# Altium footprint library CommonPcb.PcbLib: 194 footprints (part 5 of 13)
Each footprint in its own frame and in the unit in brackets; x right, y up, seen from the top. Pads: shape width x height; smd on the part's side, far side on the other; paste and mask are expansions set on the pad; w line width, h text height; cw(c..) or ccw(c..) is an arc to the next point about the centre after c.
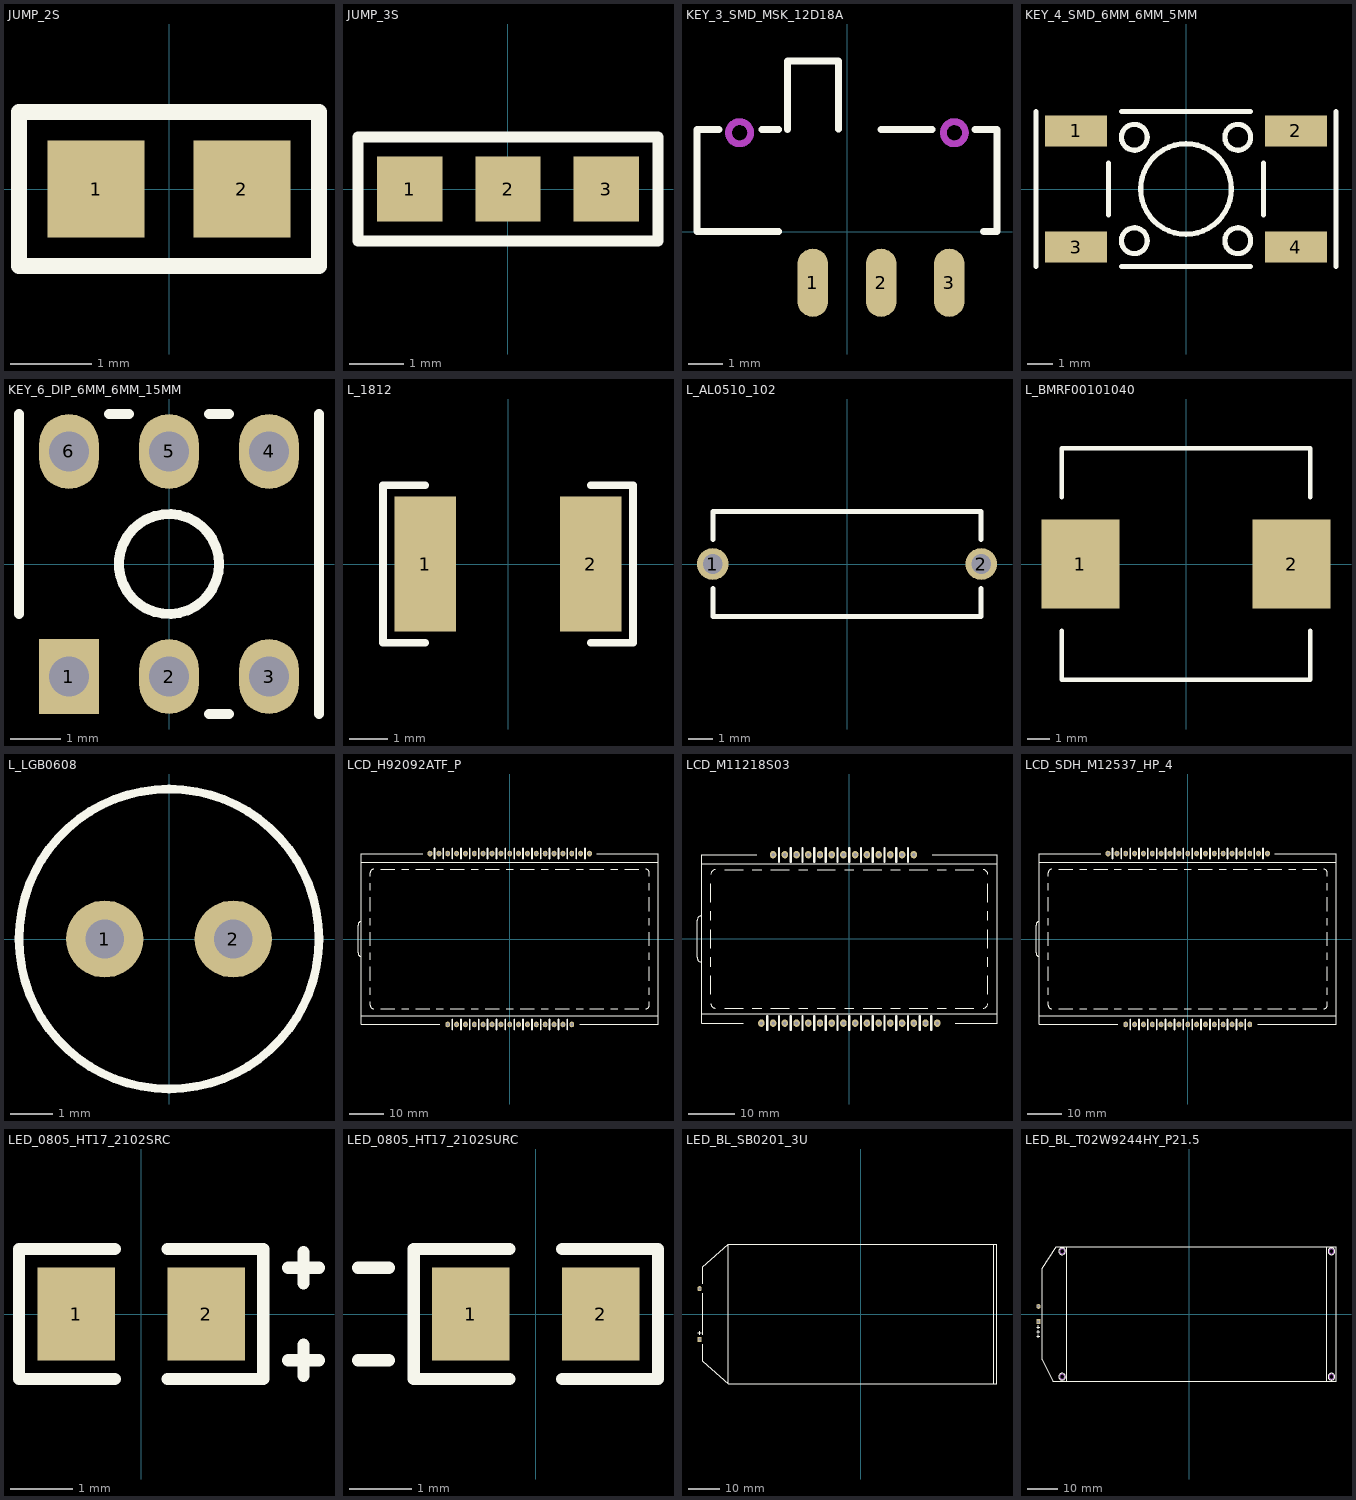
[diagram p4: the footprints below, top view; thin cyan lines are the x and y axes]

## JUMP_2S [mm] "JUMP_2S"
pads (2):
  rect 1.2x1.2 smd mask+0.1: 1(-0.9,0) 2(0.9,0)
Top Overlay:
  lines w0.2: -1.85,-0.95 -1.85,0.95 1.85,0.95 1.85,-0.95 -1.85,-0.95
3D body: height 0, standoff 0, extent -1.849,-0.949 1.849,0.949

## JUMP_3S [mm] "JUMP_3S"
pads (3):
  rect 1.2x1.2 smd mask+0.1: 1(-1.8,0) 2(0,0) 3(1.8,0)
Top Overlay:
  lines w0.2: -2.75,-0.95 -2.75,0.95 2.75,0.95 2.75,-0.95 -2.75,-0.95
3D body: height 0, standoff 0, extent -2.749,-0.949 2.749,0.949

## KEY_3_SMD_MSK_12D18A [mm] "MSK-12D18A"
pads (3):
  oval 0.9x2 smd mask+0.1: 1(-1,-1.5) 2(1,-1.5) 3(3,-1.5)
Top Overlay:
  lines w0.2: -3.75,3 -4.4,3 -4.4,0 -2,0 ; -2.5,3 -2,3 ; -1.75,3 -1.75,5 -0.25,5 -0.25,3 ; 1,3 2.5,3 ; 3.75,3 4.4,3 4.4,0 4,0
Keep-Out Layer:
  circle w0.2: c-3.15,2.9 r0.325
  circle w0.2: c3.15,2.9 r0.325
Mechanical 1:
  circle w0.2: c-3.15,2.9 r0.325
  circle w0.2: c3.15,2.9 r0.325
3D body: height 0, standoff 0, extent -4.4,-2.6 4.4,5.2

## KEY_4_SMD_6MM_6MM_5MM [mm] "6MM_6MM_5MM"
pads (4):
  rect 2.4x1.2 smd mask+0.1: 1(-4.25,2.25) 2(4.25,2.25) 3(-4.25,-2.25) 4(4.25,-2.25)
Top Overlay:
  circle w0.2: c2,-2 r0.5
  circle w0.2: c-2,-2 r0.5
  circle w0.2: c2,2 r0.5
  circle w0.2: c-2,2 r0.5
  circle w0.2: c0,0 r1.75
  lines w0.2: -5.8,-3 -5.8,3 ; -3,-1 -3,1 ; -2.5,-3 2.5,-3 ; -2.5,3 2.5,3 ; 3,-1 3,1 ; 5.8,-3 5.8,3
3D body: height 0, standoff 0, extent -5.799,-2.999 5.799,2.999

## KEY_6_DIP_6MM_6MM_15MM [mm] "6MM_6MM_15MM"
pads (6):
  rect 1.2x1.5 hole 0.8 mask+0.1: 1(-2,-2.25)
  oval 1.2x1.5 hole 0.8 mask+0.1: 2(0,-2.25) 3(2,-2.25) 4(2,2.25) 5(0,2.25) 6(-2,2.25)
Top Overlay:
  circle w0.2: c0,0 r1
  lines w0.2: -3,-1 -3,3 ; -1.2,3 -0.8,3 ; 0.8,-3 1.2,-3 ; 0.8,3 1.2,3 ; 3,-3 3,3
3D body: height 0, standoff 0, extent -2.999,-2.999 2.999,2.999

## L_1812 [mm] "L_1812"
pads (2):
  rect 1.6x3.5 smd mask+0.1: 1(-2.15,0) 2(2.15,0)
Top Overlay:
  lines w0.2: -2.15,-2.05 -3.25,-2.05 -3.25,2.05 -2.15,2.05 ; 2.15,-2.05 3.25,-2.05 3.25,2.05 2.15,2.05
3D body: height 0, standoff 0, extent -3.25,-2.05 3.25,2.05

## L_AL0510_102 [mm] "AL0510-102K"
height 4.3
pads (2):
  round 1.3 hole 0.8 mask+0.1: 1(-5.5,0) 2(5.5,0)
Top Overlay:
  lines w0.2: -5.5,-1 -5.5,-2.15 5.5,-2.15 5.5,-1 ; -5.5,1 -5.5,2.15 5.5,2.15 5.5,1
3D body: height 5, standoff 0, extent -5.5,-2.15 5.5,2.15

## L_BMRF00101040 [mm] "L_BMRF00101040"
height 4
pads (2):
  rect 3.5x4 smd mask+0.1: 1(-4.75,0) 2(4.75,0)
Top Overlay:
  lines w0.2: -5.6,-3 -5.6,-5.2 5.6,-5.2 5.6,-3 ; -5.6,3 -5.6,5.2 5.6,5.2 5.6,3
3D body: height 0, standoff 0, extent -5.6,-5.2 5.6,5.2

## L_LGB0608 [mm] "LGB0608"
pads (2):
  round 1.8 hole 0.9 mask+0.1: 1(-1.5,0) 2(1.5,0)
Top Overlay:
  circle w0.2: c0,0 r3.5
3D body: height 0, standoff 0, extent -3.499,-3.499 3.499,3.499

## LCD_H92092ATF_P [mm] "LCD"
pads (34):
  oval 1.4x1.6 hole 0.8 mask+0.1: 1(-17.78,-24.5) 2(-15.24,-24.5) 3(-12.7,-24.5) 4(-10.16,-24.5) 5(-7.62,-24.5) 6(-5.08,-24.5) 7(-2.54,-24.5) 8(0,-24.5) 9(2.54,-24.5) 10(5.08,-24.5) 11(7.62,-24.5) 12(10.16,-24.5) 13(12.7,-24.5) 14(15.24,-24.5) 15(17.78,-24.5) 16(22.86,24.5) 17(20.32,24.5) 18(17.78,24.5) 19(15.24,24.5) 20(12.7,24.5) 21(10.16,24.5) 22(7.62,24.5) 23(5.08,24.5) 24(2.54,24.5) 25(0,24.5) 26(-2.54,24.5) 27(-5.08,24.5) 28(-7.62,24.5) 29(-10.16,24.5) 30(-12.7,24.5) 31(-15.24,24.5) 32(-17.78,24.5) 33(-20.32,24.5) 34(-22.86,24.5)
Top Overlay:
  lines w0.2: -42.5,-22 42.5,-22 ; -42.5,-5 cw(c-42.5,-4) -43.5,-4 -43.5,4 cw(c-42.5,4) -42.5,5 ; -42.5,22 42.5,22 ; -40,-18 -40,-19 ccw(c-39,-19) -39,-20 ; -40,-16 -40,-14 ; -40,-12 -40,-8 ; -40,-6 -40,-4 ; -40,-2 -40,2 ; -40,4 -40,6 ; -40,8 -40,12 ; -40,14 -40,16 ; -40,18 -40,19 cw(c-39,19) -39,20 ; -37,-20 -33,-20 ; -37,20 -33,20 ; -31,-20 -29,-20 ; -31,20 -29,20 ; -27,-20 -23,-20 ; -27,20 -23,20 ; -25,24.5 -42.5,24.5 -42.5,-24.5 -20,-24.5 ; -21,-20 -19,-20 ; -21,20 -19,20 ; -17,-20 -13,-20 ; -17,20 -13,20 ; -11,-20 -9,-20 ; -11,20 -9,20 ; -7,-20 -3,-20 ; -7,20 -3,20 ; -1,-20 1,-20 ; -1,20 1,20 ; 3,-20 7,-20 ; 3,20 7,20 ; 9,-20 11,-20 ; 9,20 11,20 ; 13,-20 17,-20 ; 13,20 17,20 ; 19,-20 21,-20 ; 19,20 21,20 ; 20,-24.5 42.5,-24.5 42.5,24.5 25,24.5 ; 23,-20 27,-20 ; 23,20 27,20 ; 29,-20 31,-20 ; 29,20 31,20 ; 33,-20 37,-20 ; 33,20 37,20 ; 39,-20 ccw(c39,-19) 40,-19 40,-18 ; 39,20 cw(c39,19) 40,19 40,18 ; 40,-16 40,-14 ; 40,-12 40,-8 ; 40,-6 40,-4 ; 40,-2 40,2 ; 40,4 40,6 ; 40,8 40,12 ; 40,14 40,16
  lines w0.5: -21.59,23 -21.59,26 ; -19.05,23 -19.05,26 ; -16.51,-26 -16.51,-23 ; -16.51,23 -16.51,26 ; -13.97,-26 -13.97,-23 ; -13.97,23 -13.97,26 ; -11.43,-26 -11.43,-23 ; -11.43,23 -11.43,26 ; -8.89,-26 -8.89,-23 ; -8.89,23 -8.89,26 ; -6.35,-26 -6.35,-23 ; -6.35,23 -6.35,26 ; -3.81,-26 -3.81,-23 ; -3.81,23 -3.81,26 ; -1.27,-26 -1.27,-23 ; -1.27,23 -1.27,26 ; 1.27,-26 1.27,-23 ; 1.27,23 1.27,26 ; 3.81,-26 3.81,-23 ; 3.81,23 3.81,26 ; 6.35,-26 6.35,-23 ; 6.35,23 6.35,26 ; 8.89,-26 8.89,-23 ; 8.89,23 8.89,26 ; 11.43,-26 11.43,-23 ; 11.43,23 11.43,26 ; 13.97,-26 13.97,-23 ; 13.97,23 13.97,26 ; 16.51,-26 16.51,-23 ; 16.51,23 16.51,26 ; 19.05,23 19.05,26 ; 21.59,23 21.59,26
3D body: height 27.5, standoff 25, extent -43.6,-25.402 42.6,25.402

## LCD_M11218S03 [mm] "LCD"
pads (29):
  oval 1.4x1.6 hole 0.8 mask+0.1: 1(-16.51,18.25) 2(-13.97,18.25) 3(-11.43,18.25) 4(-8.89,18.25) 5(-6.35,18.25) 6(-3.81,18.25) 7(-1.27,18.25) 8(1.27,18.25) 9(3.81,18.25) 10(6.35,18.25) 11(8.89,18.25) 12(11.43,18.25) 13(13.97,18.25) 14(19.05,-18.25) 15(16.51,-18.25) 16(13.97,-18.25) 17(11.43,-18.25) 18(8.89,-18.25) 19(6.35,-18.25) 20(3.81,-18.25) 21(1.27,-18.25) 22(-1.27,-18.25) 23(-3.81,-18.25) 24(-6.35,-18.25) 25(-8.89,-18.25) 26(-11.43,-18.25) 27(-13.97,-18.25) 28(-16.51,-18.25) 29(-19.05,-18.25)
Top Overlay:
  lines w0.2: -32,-16.25 32,-16.25 ; -32,-5 cw(c-32,-4) -33,-4 -33,4 cw(c-32,4) -32,5 ; -32,16.25 32,16.25 ; -30,-14 ccw(c-29,-14) -29,-15 ; -30,-12 -30,-8 ; -30,-6 -30,-4 ; -30,-2 -30,2 ; -30,4 -30,6 ; -30,8 -30,12 ; -30,14 cw(c-29,14) -29,15 ; -27,-15 -23,-15 ; -27,15 -23,15 ; -23,-18.25 -32,-18.25 -32,18.25 -20,18.25 ; -21,-15 -19,-15 ; -21,15 -19,15 ; -17,-15 -13,-15 ; -17,15 -13,15 ; -11,-15 -9,-15 ; -11,15 -9,15 ; -7,-15 -3,-15 ; -7,15 -3,15 ; -1,-15 1,-15 ; -1,15 1,15 ; 3,-15 7,-15 ; 3,15 7,15 ; 9,-15 11,-15 ; 9,15 11,15 ; 13,-15 17,-15 ; 13,15 17,15 ; 18,18.25 32,18.25 32,-18.25 23,-18.25 ; 19,-15 21,-15 ; 19,15 21,15 ; 23,-15 27,-15 ; 23,15 27,15 ; 29,-15 ccw(c29,-14) 30,-14 ; 29,15 cw(c29,14) 30,14 ; 30,-12 30,-8 ; 30,-6 30,-4 ; 30,-2 30,2 ; 30,4 30,6 ; 30,8 30,12
  lines w0.5: -17.78,-19.75 -17.78,-16.75 ; -15.24,-19.75 -15.24,-16.75 ; -15.24,16.725 -15.24,19.725 ; -12.7,-19.75 -12.7,-16.75 ; -12.7,16.725 -12.7,19.725 ; -10.16,-19.75 -10.16,-16.75 ; -10.16,16.725 -10.16,19.725 ; -7.62,-19.75 -7.62,-16.75 ; -7.62,16.725 -7.62,19.725 ; -5.08,-19.75 -5.08,-16.75 ; -5.08,16.725 -5.08,19.725 ; -2.54,-19.75 -2.54,-16.75 ; -2.54,16.725 -2.54,19.725 ; 0,-19.75 0,-16.75 ; 0,16.725 0,19.725 ; 2.54,-19.75 2.54,-16.75 ; 2.54,16.725 2.54,19.725 ; 5.08,-19.75 5.08,-16.75 ; 5.08,16.725 5.08,19.725 ; 7.62,-19.75 7.62,-16.75 ; 7.62,16.725 7.62,19.725 ; 10.16,-19.75 10.16,-16.75 ; 10.16,16.725 10.16,19.725 ; 12.7,-19.75 12.7,-16.75 ; 12.7,16.725 12.7,19.725 ; 15.24,-19.75 15.24,-16.75 ; 17.78,-19.75 17.78,-16.75
3D body: height 0, standoff 0, extent -32,-18.25 32,18.25

## LCD_SDH_M12537_HP_4 [mm] "LCD"
pads (34):
  oval 1.4x1.6 hole 0.8 mask+0.1: 1(-17.78,-24.5) 2(-15.24,-24.5) 3(-12.7,-24.5) 4(-10.16,-24.5) 5(-7.62,-24.5) 6(-5.08,-24.5) 7(-2.54,-24.5) 8(0,-24.5) 9(2.54,-24.5) 10(5.08,-24.5) 11(7.62,-24.5) 12(10.16,-24.5) 13(12.7,-24.5) 14(15.24,-24.5) 15(17.78,-24.5) 16(22.86,24.5) 17(20.32,24.5) 18(17.78,24.5) 19(15.24,24.5) 20(12.7,24.5) 21(10.16,24.5) 22(7.62,24.5) 23(5.08,24.5) 24(2.54,24.5) 25(0,24.5) 26(-2.54,24.5) 27(-5.08,24.5) 28(-7.62,24.5) 29(-10.16,24.5) 30(-12.7,24.5) 31(-15.24,24.5) 32(-17.78,24.5) 33(-20.32,24.5) 34(-22.86,24.5)
Top Overlay:
  lines w0.2: -42.5,-22 42.5,-22 ; -42.5,-5 cw(c-42.5,-4) -43.5,-4 -43.5,4 cw(c-42.5,4) -42.5,5 ; -42.5,22 42.5,22 ; -40,-18 -40,-19 ccw(c-39,-19) -39,-20 ; -40,-16 -40,-14 ; -40,-12 -40,-8 ; -40,-6 -40,-4 ; -40,-2 -40,2 ; -40,4 -40,6 ; -40,8 -40,12 ; -40,14 -40,16 ; -40,18 -40,19 cw(c-39,19) -39,20 ; -37,-20 -33,-20 ; -37,20 -33,20 ; -31,-20 -29,-20 ; -31,20 -29,20 ; -27,-20 -23,-20 ; -27,20 -23,20 ; -25,24.5 -42.5,24.5 -42.5,-24.5 -20,-24.5 ; -21,-20 -19,-20 ; -21,20 -19,20 ; -17,-20 -13,-20 ; -17,20 -13,20 ; -11,-20 -9,-20 ; -11,20 -9,20 ; -7,-20 -3,-20 ; -7,20 -3,20 ; -1,-20 1,-20 ; -1,20 1,20 ; 3,-20 7,-20 ; 3,20 7,20 ; 9,-20 11,-20 ; 9,20 11,20 ; 13,-20 17,-20 ; 13,20 17,20 ; 19,-20 21,-20 ; 19,20 21,20 ; 20,-24.5 42.5,-24.5 42.5,24.5 25,24.5 ; 23,-20 27,-20 ; 23,20 27,20 ; 29,-20 31,-20 ; 29,20 31,20 ; 33,-20 37,-20 ; 33,20 37,20 ; 39,-20 ccw(c39,-19) 40,-19 40,-18 ; 39,20 cw(c39,19) 40,19 40,18 ; 40,-16 40,-14 ; 40,-12 40,-8 ; 40,-6 40,-4 ; 40,-2 40,2 ; 40,4 40,6 ; 40,8 40,12 ; 40,14 40,16
  lines w0.5: -21.59,23 -21.59,26 ; -19.05,23 -19.05,26 ; -16.51,-26 -16.51,-23 ; -16.51,23 -16.51,26 ; -13.97,-26 -13.97,-23 ; -13.97,23 -13.97,26 ; -11.43,-26 -11.43,-23 ; -11.43,23 -11.43,26 ; -8.89,-26 -8.89,-23 ; -8.89,23 -8.89,26 ; -6.35,-26 -6.35,-23 ; -6.35,23 -6.35,26 ; -3.81,-26 -3.81,-23 ; -3.81,23 -3.81,26 ; -1.27,-26 -1.27,-23 ; -1.27,23 -1.27,26 ; 1.27,-26 1.27,-23 ; 1.27,23 1.27,26 ; 3.81,-26 3.81,-23 ; 3.81,23 3.81,26 ; 6.35,-26 6.35,-23 ; 6.35,23 6.35,26 ; 8.89,-26 8.89,-23 ; 8.89,23 8.89,26 ; 11.43,-26 11.43,-23 ; 11.43,23 11.43,26 ; 13.97,-26 13.97,-23 ; 13.97,23 13.97,26 ; 16.51,-26 16.51,-23 ; 16.51,23 16.51,26 ; 19.05,23 19.05,26 ; 21.59,23 21.59,26
3D body: height 27.5, standoff 25, extent -43.6,-25.402 42.6,25.402

## LED_0805_HT17_2102SRC [mm] "0805"
height 1.1
pads (2):
  rect 1.25x1.5 smd mask+0.1: 1(-1.05,0) 2(1.05,0)
Top Overlay:
  lines w0.2: -0.425,-1.05 -1.975,-1.05 -1.975,1.05 -0.425,1.05 ; 0.425,-1.05 1.975,-1.05 1.975,1.05 0.425,1.05 ; 2.375,-0.75 2.875,-0.75 ; 2.375,0.75 2.875,0.75 ; 2.625,-1 2.625,-0.5 ; 2.625,0.5 2.625,1
3D body: height 0, standoff 0, extent -1.974,-1.049 1.974,1.049

## LED_0805_HT17_2102SURC [mm] "0805"
height 1.1
pads (2):
  rect 1.25x1.5 smd mask+0.1: 1(-1.05,0) 2(1.05,0)
Top Overlay:
  lines w0.2: -2.875,-0.75 -2.375,-0.75 ; -2.875,0.75 -2.375,0.75 ; -0.425,-1.05 -1.975,-1.05 -1.975,1.05 -0.425,1.05 ; 0.425,-1.05 1.975,-1.05 1.975,1.05 0.425,1.05
3D body: height 0, standoff 0, extent -1.974,-1.049 1.974,1.049

## LED_BL_SB0201_3U [mm] "LED BACKLIGHT FOR LCD DISPLAY"
pads (2):
  rect 1.4x1.6 hole 0.8 mask+0.1: 1(-51,-8)
  oval 1.4x1.6 hole 0.8 mask+0.1: 2(-51,8)
Top Overlay:
  lines w0.2: -51.5,-6 -50.5,-6 ; -51,-6.5 -51,-5.5 ; -50,-9.5 -50,-15 -42,-22 ; -50,-6.5 -50,6.5 ; -50,9.5 -50,15 -42,22 ; -42,-22 42,-22 ; -42,-22 -42,22 ; -42,22 42,22 ; 42,-22 42,22 ; 42,-22 43,-22 43,22 42,22
3D body: height 13, standoff 9.7, extent -50.1,-22.1 43.1,22.1

## LED_BL_T02W9244HY_P21.5 [mm] "LED BACKLIGHT FOR LCD DISPLAY"
pads (2):
  rect 1.4x1.6 hole 0.8 mask+0.1: 1(-49.25,-2.5)
  oval 1.4x1.6 hole 0.8 mask+0.1: 2(-49.25,2.5)
Top Overlay:
  circle w0.2: c-41.5,-20.5 r1.1
  circle w0.2: c-41.5,20.5 r1.1
  circle w0.2: c46.5,20.5 r1.1
  circle w0.2: c46.5,-20.5 r1.1
  lines w0.2: -49.75,-7.25 -48.75,-7.25 ; -49.75,-5.75 -48.75,-5.75 ; -49.75,-4.25 -48.75,-4.25 ; -49.25,-7.75 -49.25,-6.75 ; -49.25,-6.25 -49.25,-5.25 ; -49.25,-4.75 -49.25,-3.75 ; -40,-22 -44.5,-22 -48,-15 -48,15 -43.5,22 -40,22 ; -40,-22 -40,22 ; -40,-22 45,-22 ; -40,22 45,22 ; 45,-22 48,-22 48,22 45,22 ; 45,-22 45,22
Mechanical 1:
  circle w0.2: c46.5,-20.5 r0.8
  circle w0.2: c46.5,20.5 r0.8
  circle w0.2: c-41.5,20.5 r0.8
  circle w0.2: c-41.5,-20.5 r0.8
3D body: height 0, standoff 0, extent -49.85,-22.1 48.1,22.1